# EAGLE library part AMP-1241150-7 (library jt-con-tyco)
AMPMODU II 2.54mm SMT unshrouded 7-position
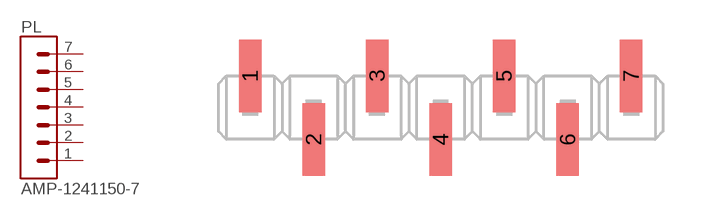
[diagram p1: symbol with the pads of AMP-1241150-7; footprint AMP-1241150-7]

Designator prefix PL

## AMP-1241150-7  [AMP-1241150-7]
1  1
2  2
3  3
4  4
5  5
6  6
7  7

## Footprint AMP-1241150-7 (pad centres in mm)
AMPMODU II 2.54mm SMT unshrouded 7-position
smd 0.9 x 2.9: 1 -7.62,1.27; 2 -5.08,-1.27; 3 -2.54,1.27; 4 0,-1.27; 5 2.54,1.27; 6 5.08,-1.27; 7 7.62,1.27